# Altium footprint library transformer.PcbLib: 1 footprints
Each footprint in its own frame and in the unit in brackets; x right, y up, seen from the top. Pads: shape width x height; smd on the part's side, far side on the other; paste and mask are expansions set on the pad; w line width, h text height; cw(c..) or ccw(c..) is an arc to the next point about the centre after c.
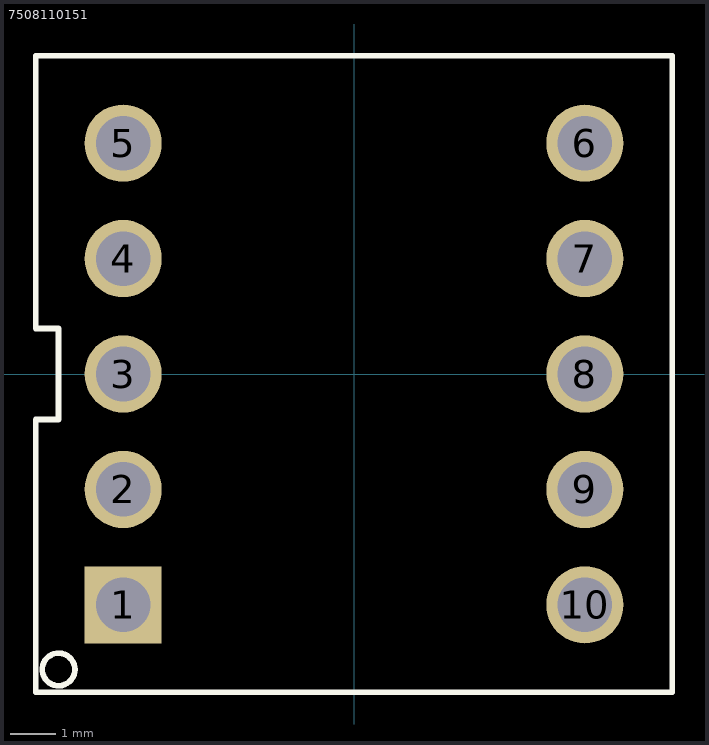
[diagram p0: the footprint, top view; thin cyan lines are the x and y axes]

## 7508110151 [mm] "Wurth 7508110151"
pads (10):
  rect 1.7x1.7 hole 1.2: 1(-5.08,-5.08)
  round 1.7 hole 1.2: 2(-5.08,-2.54) 3(-5.08,0) 4(-5.08,2.54) 5(-5.08,5.08) 6(5.08,5.08) 7(5.08,2.54) 8(5.08,0) 9(5.08,-2.54) 10(5.08,-5.08)
Top Overlay:
  circle w0.127: c-6.5,-6.5 r0.359
  lines w0.127: -7,-7 -7,-1 -6.5,-1 -6.5,1 -7,1 -7,7 7,7 7,-7 -7,-7
3D body: height 12.7, standoff 0, extent -7,-7 7,7